# Altium schematic symbol library p82b96.SchLib: 1 symbol
Pins are listed as number, name and electrical type; pins without a type are passive.

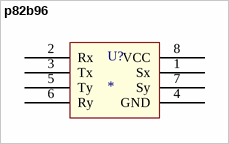
[diagram p0: symbol p82b96]

## p82b96
designator U?
footprint DIP-8 (DIP, 8-Pin, Row Spacing 7.62 mm, Pitch 2.54 mm)
pins: 1 Sx, 2 Rx, 3 Tx, 4 GND, 5 Ty, 6 Ry, 7 Sy, 8 VCC